# Altium footprint library CAPC0306X018.PcbLib: 3 footprints
Each footprint in its own frame and in the unit in brackets; x right, y up, seen from the top. Pads: shape width x height; smd on the part's side, far side on the other; paste and mask are expansions set on the pad; w line width, h text height; cw(c..) or ccw(c..) is an arc to the next point about the centre after c.
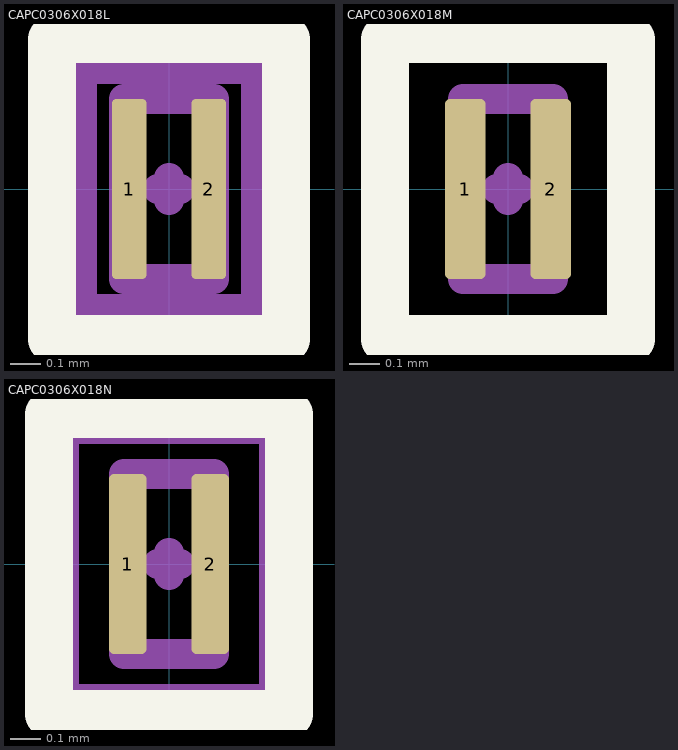
[diagram p0: the footprints below, top view; thin cyan lines are the x and y axes]

## CAPC0306X018L [mm] "Capacitors, Chip, Non-polarized"
height 0.2
pads (2):
  rrect25% 0.115x0.6 smd: 1(-0.132,0) 2(0.132,0)
Top Overlay:
  lines w0.16: -0.39,-0.5 0.39,-0.5 0.39,0.5 -0.39,0.5 -0.39,-0.5
Top Component Center:
  lines w0.1: -0.037,0 0.037,0 ; 0,-0.037 0,0.037
Top Courtyard:
  lines w0.1: -0.29,-0.4 0.29,-0.4 0.29,0.4 -0.29,0.4 -0.29,-0.4
Top Assembly:
  lines w0.1: -0.15,-0.3 0.15,-0.3 0.15,0.3 -0.15,0.3 -0.15,-0.3
  text ".Designator" at 0,0 h1
3D body "CAPC0306X018L.STEP": height 0.18, standoff 0, extent -0.15,-0.3 0.15,0.3

## CAPC0306X018M [mm] "Capacitors, Chip, Non-polarized"
height 0.2
pads (2):
  rrect25% 0.135x0.6 smd: 1(-0.142,0) 2(0.142,0)
Top Overlay:
  lines w0.16: -0.41,-0.5 0.41,-0.5 0.41,0.5 -0.41,0.5 -0.41,-0.5
Top Component Center:
  lines w0.1: -0.037,0 0.037,0 ; 0,-0.037 0,0.037
Top Courtyard:
  lines w0.1: -0.41,-0.5 0.41,-0.5 0.41,0.5 -0.41,0.5 -0.41,-0.5
Top Assembly:
  lines w0.1: -0.15,-0.3 0.15,-0.3 0.15,0.3 -0.15,0.3 -0.15,-0.3
  text ".Designator" at 0,0 h1
3D body "CAPC0306X018M.STEP": height 0.18, standoff 0, extent -0.15,-0.3 0.15,0.3

## CAPC0306X018N [mm] "Capacitors, Chip, Non-polarized"
height 0.2
pads (2):
  rrect25% 0.125x0.6 smd: 1(-0.137,0) 2(0.137,0)
Top Overlay:
  lines w0.16: -0.4,-0.5 0.4,-0.5 0.4,0.5 -0.4,0.5 -0.4,-0.5
Top Component Center:
  lines w0.1: -0.037,0 0.037,0 ; 0,-0.037 0,0.037
Top Courtyard:
  lines w0.1: -0.35,-0.45 0.35,-0.45 0.35,0.45 -0.35,0.45 -0.35,-0.45
Top Assembly:
  lines w0.1: -0.15,-0.3 0.15,-0.3 0.15,0.3 -0.15,0.3 -0.15,-0.3
  text ".Designator" at 0,0 h1
3D body "CAPC0306X018N.STEP": height 0.18, standoff 0, extent -0.15,-0.3 0.15,0.3